# Altium integrated library Linear Technology Power Management Switching Regulator LTC1174-LTC3901.IntLib: 2647 symbols (part 189 of 364)
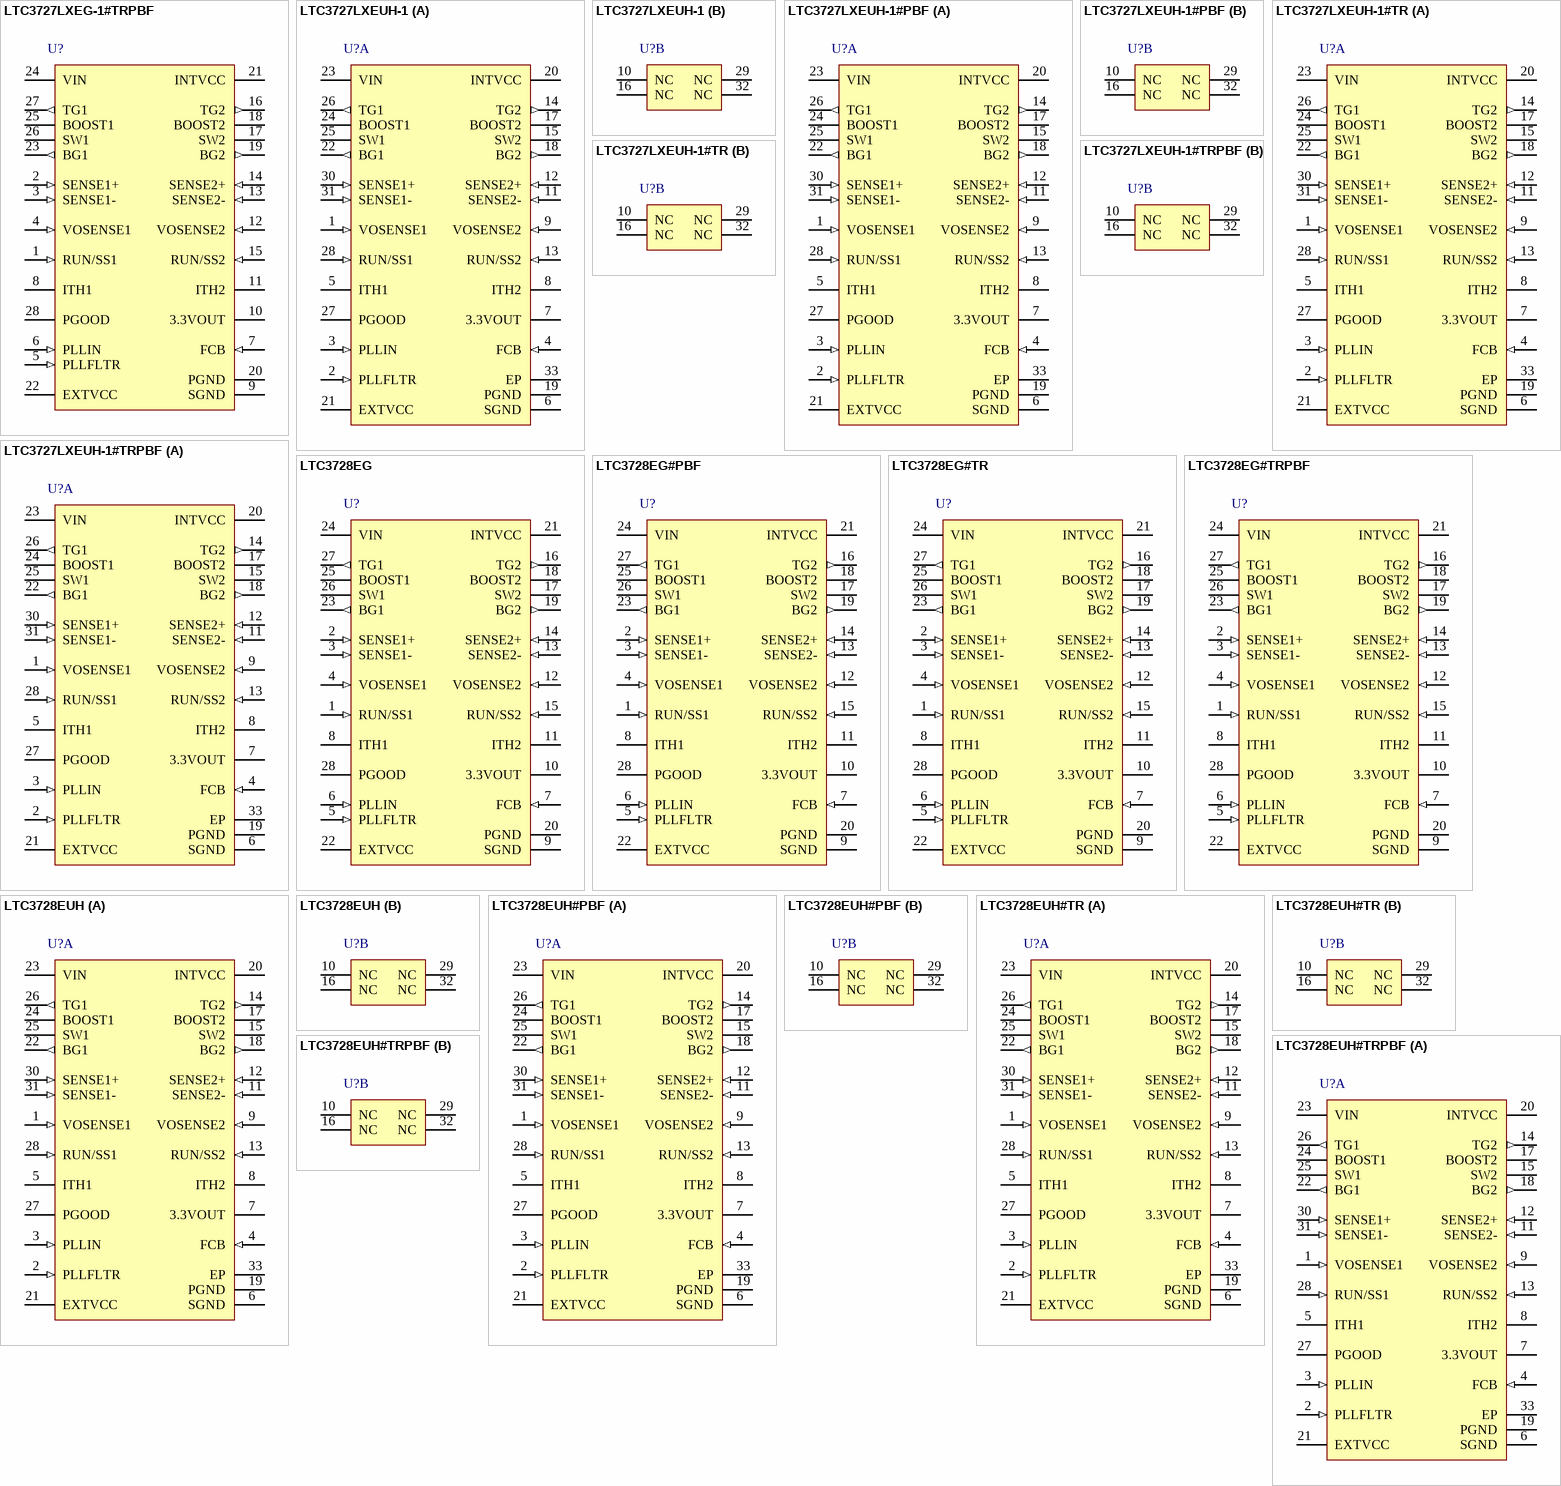
[diagram p311: symbols LTC3727LXEG-1#TRPBF to LTC3728EUH#TRPBF]

## LTC3727LXEUH-1
designator U?
High Efficiency, 2-Phase Synchronous Step-Down Switching Regulator, 32-pin QFN (UH-32), -40 to 85 degC; Manufacturer: Linear Technology; PartNumber: LTC3727LXEUH-1; Frequency Sync Range: 250kHz - 550kHz; Number of Outputs: 2; DatasheetVersion: Rev. C; PackageVersion: Rev. D, 06/2010; PackageReference: UH-32; PackageDescription: 32-Pin Plastic QFN, Body 5 x 5 mm, Pitch 0.5 mm; RoHS: FALSE; Mounting Technology: Surface Mount; Code_JEDEC: MO-220; ComponentLink1Description: Manufacturer URL; ComponentLink1URL: http://www.linear.com/; ComponentLink2Description: Datasheet; ComponentLink2URL: http://cds.linear.com/docs/en/datasheet/3727fc.pdf; ComponentLink3Description: Package Specification; ComponentLink3URL: http://cds.linear.com/docs/en/packaging/QFN_32_05-08-1693.pdf
footprint LT-UH-32_N (QFN, 32-Leads, Body 5.1x5.1mm, Pitch 0.5mm, Thermal Pad 3.45X3.45mm, IPC Medium Density)
footprint LT-UH-32_L (QFN, 32-Leads, Body 5.1x5.1mm, Pitch 0.5mm, Thermal Pad 3.45X3.45mm, IPC High Density)
footprint LT-UH-32_M (QFN, 32-Leads, Body 5.1x5.1mm, Pitch 0.5mm, Thermal Pad 3.45X3.45mm, IPC Low Density)
part A pins: 1 VOSENSE1 (in) "Receives the remotely-sensed feedback voltage for each controller from an external resistive divider across the output.", 2 PLLFLTR (in) "The phase-locked loop’s lowpass filter is tied to this pin. Alternatively, this pin can be driven with an AC or DC voltage source to vary the frequency of the internal oscillator.", 3 PLLIN (in) "External Synchronization Input to Phase Detector. This pin is internally terminated to SGND with 50kohm. The phase-locked loop will force the rising top gate signal of controller 1 to be synchronized with the rising edge of (See Datasheet)", 4 FCB (in), 5 ITH1 "Error Amplifier Outputs and Switching Regulator Compensation Point. Each associated channels’ current comparator trip point increases with this control voltage.", 6 SGND (power) "Small Signal Ground. Common to both controllers; must be routed separately from high current grounds to the common (-) terminals of the COUT capacitors.", 7 3.3VOUT (power), 8 ITH2 "Error Amplifier Outputs and Switching Regulator Compensation Point. Each associated channels’ current comparator trip point increases with this control voltage.", 9 VOSENSE2 (in) "Receives the remotely-sensed feedback voltage for each controller from an external resistive divider across the output.", 11 SENSE2- (in) "The (-) Input to the Differential Current Comparators.", 12 SENSE2+ (in) "The (+) Input to the Differential Current Comparators. The ITH pin voltage and controlled offsets between the SENSE- and SENSE+ pins in conjunction with RSENSE set the current trip threshold.", 13 RUN/SS2 (in), 14 TG2 (out) "High Current Gate Drives for Top N-Channel MOSFETs. These are the outputs of floating drivers with a voltage swing equal to INTVCC - 0.5V superimposed on the switch node voltage SW.", 15 SW2 "Switch Node Connections to Inductors. Voltage swing at these pins is from a Schottky diode (external) voltage drop below ground to VIN.", 17 BOOST2 "Bootstrapped Supplies to the Top Side Floating Drivers. Capacitors are connected between the boost and switch pins and Schottky diodes are tied between the boost and INTVCC pins. Voltage swing at the boost pins is from (See Datasheet)", 18 BG2 (out) "High Current Gate Drives for Bottom (Synchronous) N-Channel MOSFETs. Voltage swing at these pins is from ground to INTVCC", 19 PGND (power) "Driver Power Ground. Connects to the sources of bottom (synchronous) N-channel MOSFETs, anodes of the Schottky rectifiers and the (-) terminal(s) of CIN.", 20 INTVCC (power), 21 EXTVCC (power), 22 BG1 (out) "High Current Gate Drives for Bottom (Synchronous) N-Channel MOSFETs. Voltage swing at these pins is from ground to INTVCC", 23 VIN (power) "Main Supply Pin. A bypass capacitor should be tied between this pin and the signal ground pin.", 24 BOOST1 "Bootstrapped Supplies to the Top Side Floating Drivers. Capacitors are connected between the boost and switch pins and Schottky diodes are tied between the boost and INTVCC pins. Voltage swing at the boost pins is from (See Datasheet)", 25 SW1 "Switch Node Connections to Inductors. Voltage swing at these pins is from a Schottky diode (external) voltage drop below ground to VIN.", 26 TG1 (out) "High Current Gate Drives for Top N-Channel MOSFETs. These are the outputs of floating drivers with a voltage swing equal to INTVCC - 0.5V superimposed on the switch node voltage SW.", 27 PGOOD (oc) "Open-Drain Logic Output. PGOOD is pulled to ground when the voltage on either VOSENSE pin is not within +/-7.5% of its set point.", 28 RUN/SS1 (in), 30 SENSE1+ (in) "The (+) Input to the Differential Current Comparators. The ITH pin voltage and controlled offsets between the SENSE- and SENSE+ pins in conjunction with RSENSE set the current trip threshold.", 31 SENSE1- (in) "The (-) Input to the Differential Current Comparators.", 33 EP (power)
part B pins: 10 NC, 16 NC, 29 NC, 32 NC

## LTC3727LXEUH-1#PBF
designator U?
High Efficiency, 2-Phase Synchronous Step-Down Switching Regulator, 32-pin QFN (UH-32), -40 to 85 degC, Pb-Free; Manufacturer: Linear Technology; PartNumber: LTC3727LXEUH-1#PBF; Frequency Sync Range: 250kHz - 550kHz; Number of Outputs: 2; DatasheetVersion: Rev. C; PackageVersion: Rev. D, 06/2010; PackageReference: UH-32; PackageDescription: 32-Pin Plastic QFN, Body 5 x 5 mm, Pitch 0.5 mm; Supplier 1: Digi-Key; Supplier Part Number 1: LTC3727LXEUH-1#PBF-ND; RoHS: TRUE; Mounting Technology: Surface Mount; Code_JEDEC: MO-220; ComponentLink1Description: Manufacturer URL; ComponentLink1URL: http://www.linear.com/; ComponentLink2Description: Datasheet; ComponentLink2URL: http://cds.linear.com/docs/en/datasheet/3727fc.pdf; ComponentLink3Description: Package Specification; ComponentLink3URL: http://cds.linear.com/docs/en/packaging/QFN_32_05-08-1693.pdf
footprint LT-UH-32_N (QFN, 32-Leads, Body 5.1x5.1mm, Pitch 0.5mm, Thermal Pad 3.45X3.45mm, IPC Medium Density)
footprint LT-UH-32_L (QFN, 32-Leads, Body 5.1x5.1mm, Pitch 0.5mm, Thermal Pad 3.45X3.45mm, IPC High Density)
footprint LT-UH-32_M (QFN, 32-Leads, Body 5.1x5.1mm, Pitch 0.5mm, Thermal Pad 3.45X3.45mm, IPC Low Density)
part A pins: 1 VOSENSE1 (in) "Receives the remotely-sensed feedback voltage for each controller from an external resistive divider across the output.", 2 PLLFLTR (in) "The phase-locked loop’s lowpass filter is tied to this pin. Alternatively, this pin can be driven with an AC or DC voltage source to vary the frequency of the internal oscillator.", 3 PLLIN (in) "External Synchronization Input to Phase Detector. This pin is internally terminated to SGND with 50kohm. The phase-locked loop will force the rising top gate signal of controller 1 to be synchronized with the rising edge of (See Datasheet)", 4 FCB (in), 5 ITH1 "Error Amplifier Outputs and Switching Regulator Compensation Point. Each associated channels’ current comparator trip point increases with this control voltage.", 6 SGND (power) "Small Signal Ground. Common to both controllers; must be routed separately from high current grounds to the common (-) terminals of the COUT capacitors.", 7 3.3VOUT (power), 8 ITH2 "Error Amplifier Outputs and Switching Regulator Compensation Point. Each associated channels’ current comparator trip point increases with this control voltage.", 9 VOSENSE2 (in) "Receives the remotely-sensed feedback voltage for each controller from an external resistive divider across the output.", 11 SENSE2- (in) "The (-) Input to the Differential Current Comparators.", 12 SENSE2+ (in) "The (+) Input to the Differential Current Comparators. The ITH pin voltage and controlled offsets between the SENSE- and SENSE+ pins in conjunction with RSENSE set the current trip threshold.", 13 RUN/SS2 (in), 14 TG2 (out) "High Current Gate Drives for Top N-Channel MOSFETs. These are the outputs of floating drivers with a voltage swing equal to INTVCC - 0.5V superimposed on the switch node voltage SW.", 15 SW2 "Switch Node Connections to Inductors. Voltage swing at these pins is from a Schottky diode (external) voltage drop below ground to VIN.", 17 BOOST2 "Bootstrapped Supplies to the Top Side Floating Drivers. Capacitors are connected between the boost and switch pins and Schottky diodes are tied between the boost and INTVCC pins. Voltage swing at the boost pins is from (See Datasheet)", 18 BG2 (out) "High Current Gate Drives for Bottom (Synchronous) N-Channel MOSFETs. Voltage swing at these pins is from ground to INTVCC", 19 PGND (power) "Driver Power Ground. Connects to the sources of bottom (synchronous) N-channel MOSFETs, anodes of the Schottky rectifiers and the (-) terminal(s) of CIN.", 20 INTVCC (power), 21 EXTVCC (power), 22 BG1 (out) "High Current Gate Drives for Bottom (Synchronous) N-Channel MOSFETs. Voltage swing at these pins is from ground to INTVCC", 23 VIN (power) "Main Supply Pin. A bypass capacitor should be tied between this pin and the signal ground pin.", 24 BOOST1 "Bootstrapped Supplies to the Top Side Floating Drivers. Capacitors are connected between the boost and switch pins and Schottky diodes are tied between the boost and INTVCC pins. Voltage swing at the boost pins is from (See Datasheet)", 25 SW1 "Switch Node Connections to Inductors. Voltage swing at these pins is from a Schottky diode (external) voltage drop below ground to VIN.", 26 TG1 (out) "High Current Gate Drives for Top N-Channel MOSFETs. These are the outputs of floating drivers with a voltage swing equal to INTVCC - 0.5V superimposed on the switch node voltage SW.", 27 PGOOD (oc) "Open-Drain Logic Output. PGOOD is pulled to ground when the voltage on either VOSENSE pin is not within +/-7.5% of its set point.", 28 RUN/SS1 (in), 30 SENSE1+ (in) "The (+) Input to the Differential Current Comparators. The ITH pin voltage and controlled offsets between the SENSE- and SENSE+ pins in conjunction with RSENSE set the current trip threshold.", 31 SENSE1- (in) "The (-) Input to the Differential Current Comparators.", 33 EP (power)
part B pins: 10 NC, 16 NC, 29 NC, 32 NC